# Altium footprint library Controller.PcbLib: 41 footprints (part 3 of 3)
Each footprint in its own frame and in the unit in brackets; x right, y up, seen from the top. Pads: shape width x height; smd on the part's side, far side on the other; paste and mask are expansions set on the pad; w line width, h text height; cw(c..) or ccw(c..) is an arc to the next point about the centre after c.
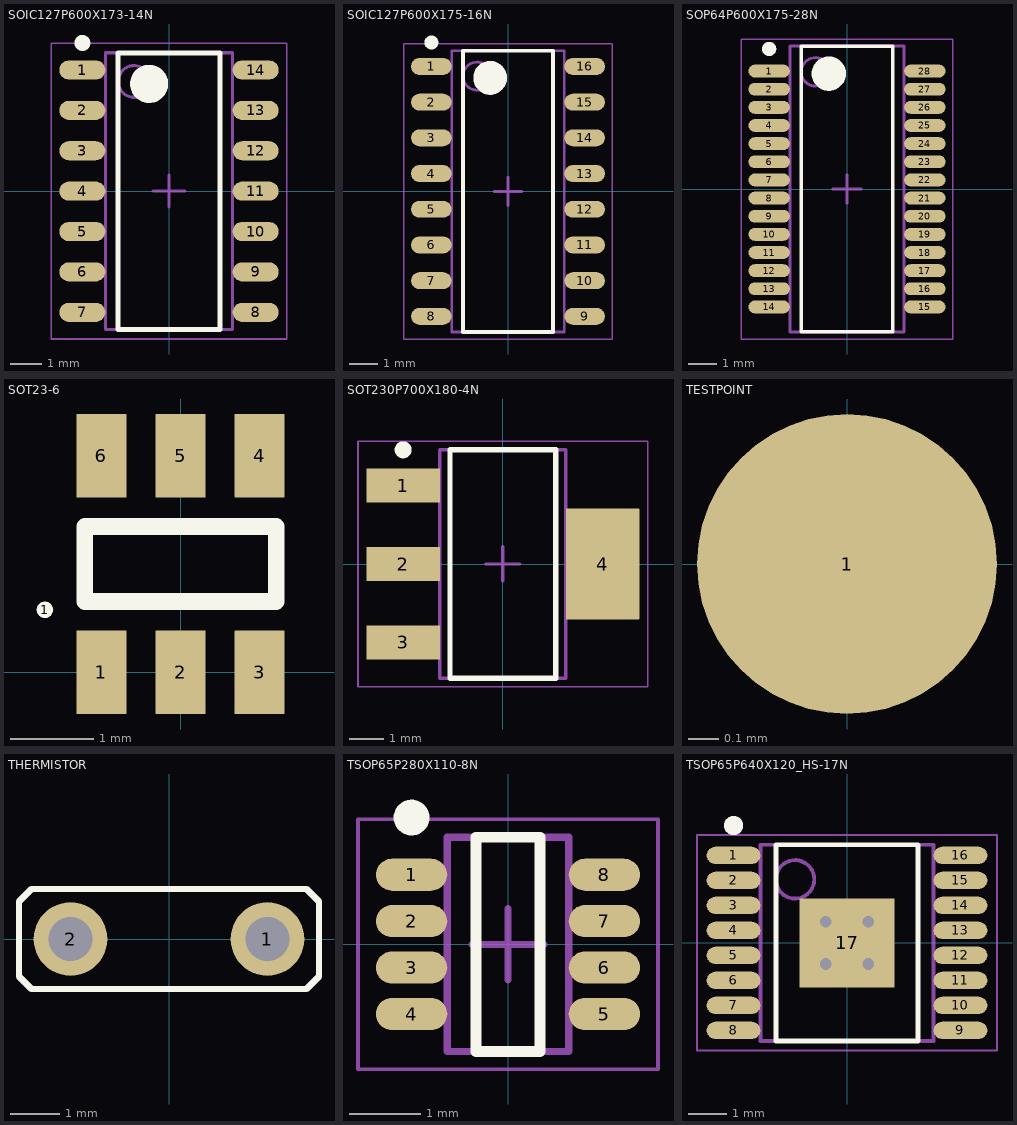
[diagram p2: the footprints below, top view; thin cyan lines are the x and y axes]

## SOIC127P600X173-14N [mm] "SOIC, 14-Leads, Body 8.63x3.90mm, Pitch 1.27mm, IPC Medium Density"
height 1.73
pads (14):
  oval 1.45x0.6 smd: 1(-2.725,3.81) 2(-2.725,2.54) 3(-2.725,1.27) 4(-2.725,0) 5(-2.725,-1.27) 6(-2.725,-2.54) 7(-2.725,-3.81) 8(2.725,-3.81) 9(2.725,-2.54) 10(2.725,-1.27) 11(2.725,0) 12(2.725,1.27) 13(2.725,2.54) 14(2.725,3.81)
Top Overlay:
  circle w0.6: c-0.624,3.374 r0.3
  circle w0.25: c-2.725,4.66 r0.125
  lines w0.152: -1.6,-4.35 1.6,-4.35 1.6,4.35 -1.6,4.35 -1.6,-4.35
Mechanical 13:
  circle w0.1: c-1.1,3.45 r0.5
  lines w0.1: -2,-4.35 2,-4.35 2,4.35 -2,4.35 -2,-4.35
Mechanical 15:
  lines w0.05: -3.7,-4.65 3.7,-4.65 3.7,4.65 -3.7,4.65 -3.7,-4.65
  lines w0.1: -0.5,0 0.5,0 ; 0,-0.5 0,0.5
3D body "SOIC127P600X173-14N.step": height 1.73, standoff 0, extent -3,-4.35 3,4.35

## SOIC127P600X175-16N [mm] "SOIC, 16-Leads, Body 9.90x3.90mm, Pitch 1.27mm, IPC Medium Density"
height 1.75
pads (16):
  oval 1.45x0.6 smd: 1(-2.725,4.445) 2(-2.725,3.175) 3(-2.725,1.905) 4(-2.725,0.635) 5(-2.725,-0.635) 6(-2.725,-1.905) 7(-2.725,-3.175) 8(-2.725,-4.445) 9(2.725,-4.445) 10(2.725,-3.175) 11(2.725,-1.905) 12(2.725,-0.635) 13(2.725,0.635) 14(2.725,1.905) 15(2.725,3.175) 16(2.725,4.445)
Top Overlay:
  circle w0.6: c-0.637,4.036 r0.3
  circle w0.25: c-2.725,5.295 r0.125
  lines w0.127: -1.6,-5 1.6,-5 1.6,5 -1.6,5 -1.6,-5
Mechanical 13:
  circle w0.1: c-1.1,4.1 r0.5
  lines w0.1: -2,-5 2,-5 2,5 -2,5 -2,-5
Mechanical 15:
  lines w0.05: -3.7,-5.25 3.7,-5.25 3.7,5.25 -3.7,5.25 -3.7,-5.25
  lines w0.1: -0.5,0 0.5,0 ; 0,-0.5 0,0.5
3D body "SOIC127P600X175-16N.step": height 1.75, standoff 0, extent -2.999,-5 2.999,5

## SOP64P600X175-28N [mm] "SOP, 28-Leads, Body 9.89x3.90mm, Pitch 0.64mm, IPC Medium Density"
height 1.75
pads (28):
  oval 1.45x0.45 smd: 1(-2.725,4.127) 2(-2.725,3.492) 3(-2.725,2.857) 4(-2.725,2.222) 5(-2.725,1.587) 6(-2.725,0.953) 7(-2.725,0.318) 8(-2.725,-0.318) 9(-2.725,-0.953) 10(-2.725,-1.587) 11(-2.725,-2.222) 12(-2.725,-2.857) 13(-2.725,-3.492) 14(-2.725,-4.127) 15(2.725,-4.127) 16(2.725,-3.492) 17(2.725,-2.857) 18(2.725,-2.222) 19(2.725,-1.587) 20(2.725,-0.953) 21(2.725,-0.318) 22(2.725,0.318) 23(2.725,0.953) 24(2.725,1.587) 25(2.725,2.222) 26(2.725,2.857) 27(2.725,3.492) 28(2.725,4.127)
Top Overlay:
  circle w0.25: c-2.725,4.902 r0.125
  circle w0.6: c-0.637,4.036 r0.3
  lines w0.127: -1.6,-5 -1.6,5 1.6,5 1.6,-5 -1.6,-5
Mechanical 13:
  circle w0.1: c-1.1,4.1 r0.5
  lines w0.1: -2,-5 -2,5 2,5 2,-5 -2,-5
Mechanical 15:
  lines w0.05: -3.7,-5.25 -3.7,5.25 3.7,5.25 3.7,-5.25 -3.7,-5.25
  lines w0.1: -0.5,0 0.5,0 ; 0,-0.5 0,0.5
3D body "SOP64P600X175-28N.step": height 1.75, standoff 0, extent -3.004,-5 3.004,5

## SOT23-6 [mm] "SOT143-4 as used in SP0503BAHTG"
pads (7):
  round 0.2 on Top Overlay: 1(-1.627,0.75)
  rrect1% 0.6x1 smd mask+0.03: 1(-0.95,0) 2(0,0) 3(0.95,0) 4(0.95,2.6) 5(0,2.6) 6(-0.95,2.6)
Top Overlay:
  lines w0.2: -1.15,0.85 -1.15,1.75 1.15,1.75 1.15,0.85 -1.15,0.85
3D body "SOT236.step": height 1, standoff 0, extent -1.46,0.13 1.46,2.47

## SOT230P700X180-4N [mm] "SOT223, 4-Leads, Body 6.50x7.00mm (avg), Pitch 2.30mm, IPC Medium Density"
height 1.8
pads (4):
  rrect1% 2.15x1 smd: 1(-2.925,2.3) 2(-2.925,0) 3(-2.925,-2.3)
  rrect1% 2.15x3.25 smd: 4(2.925,0)
Top Overlay:
  circle w0.25: c-2.925,3.35 r0.125
  lines w0.152: -1.55,-3.35 1.55,-3.35 1.55,3.35 -1.55,3.35 -1.55,-3.35
Mechanical 13:
  lines w0.1: -1.85,-3.35 1.85,-3.35 1.85,3.35 -1.85,3.35 -1.85,-3.35
Mechanical 15:
  lines w0.05: -4.25,-3.6 4.25,-3.6 4.25,3.6 -4.25,3.6 -4.25,-3.6
  lines w0.1: -0.5,0 0.5,0 ; 0,-0.5 0,0.5
3D body "SOT230P700X180-4N.step": height 1.8, standoff 0, extent -3.5,-3.35 3.5,3.35

## TESTPOINT [mm]
pads (1):
  round 1 smd paste-10: 1(0,0)

## THERMISTOR [mm]
pads (2):
  round 1.5 hole 0.9: 1(2,0) 2(-2,0)
Top Overlay:
  lines w0.127: -3.048,-0.762 -2.794,-1.016 2.794,-1.016 3.048,-0.762 3.048,0.762 2.794,1.016 -2.794,1.016 -3.048,0.762 -3.048,-0.762

## TSOP65P280X110-8N [mm] "TSOP8 x 0.65mm"
height 1.1
pads (8):
  oval 1x0.45 smd: 1(-1.35,0.975) 2(-1.35,0.325) 3(-1.35,-0.325) 4(-1.35,-0.975) 5(1.35,-0.975) 6(1.35,-0.325) 7(1.35,0.325) 8(1.35,0.975)
Top Overlay:
  circle w0.25: c-1.35,1.775 r0.125
  lines w0.152: -0.45,-1.5 0.45,-1.5 0.45,1.5 -0.45,1.5 -0.45,-1.5
Mechanical 13:
  lines w0.1: -0.85,-1.5 0.85,-1.5 0.85,1.5 -0.85,1.5 -0.85,-1.5
Mechanical 15:
  lines w0.05: -2.1,-1.75 2.1,-1.75 2.1,1.75 -2.1,1.75 -2.1,-1.75
  lines w0.1: -0.5,0 0.5,0 ; 0,-0.5 0,0.5
3D body "TSOP65P280X110-8N.step": height 1.1, standoff 0, extent -1.4,-1.5 1.4,1.5

## TSOP65P640X120_HS-17N [mm] "TSOP, 16-Leads, Body 5.00x4.40mm, Pitch 0.65mm, Thermal Pad 2.31x2.46mm, IPC Medium Density"
height 1.2
pads (17):
  oval 1.4x0.45 smd: 1(-2.95,2.275) 2(-2.95,1.625) 3(-2.95,0.975) 4(-2.95,0.325) 5(-2.95,-0.325) 6(-2.95,-0.975) 7(-2.95,-1.625) 8(-2.95,-2.275) 9(2.95,-2.275) 10(2.95,-1.625) 11(2.95,-0.975) 12(2.95,-0.325) 13(2.95,0.325) 14(2.95,0.975) 15(2.95,1.625) 16(2.95,2.275)
  rect 2.46x2.31 smd: 17(0,0)
via -0.55,0.55 diameter 0.5 hole 0.3
via 0.55,0.55 diameter 0.5 hole 0.3
via -0.55,-0.55 diameter 0.5 hole 0.3
via 0.55,-0.55 diameter 0.5 hole 0.3
Top Overlay:
  circle w0.25: c-2.95,3.05 r0.125
  lines w0.127: -1.85,-2.55 -1.85,2.55 1.85,2.55 1.85,-2.55 -1.85,-2.55
Mechanical 13:
  circle w0.1: c-1.35,1.65 r0.5
  lines w0.1: -2.25,-2.55 -2.25,2.55 2.25,2.55 2.25,-2.55 -2.25,-2.55
Mechanical 15:
  lines w0.05: -3.9,-2.8 -3.9,2.8 3.9,2.8 3.9,-2.8 -3.9,-2.8
  lines w0.1: -0.5,0 0.5,0 ; 0,-0.5 0,0.5
3D body "TSOP65P640X120_HS-17N.step": height 1.2, standoff 0, extent -3.2,-2.55 3.2,2.55